# Altium integrated library Micron Memory Mobile LPDRAM.IntLib: 146 symbols (part 20 of 41)
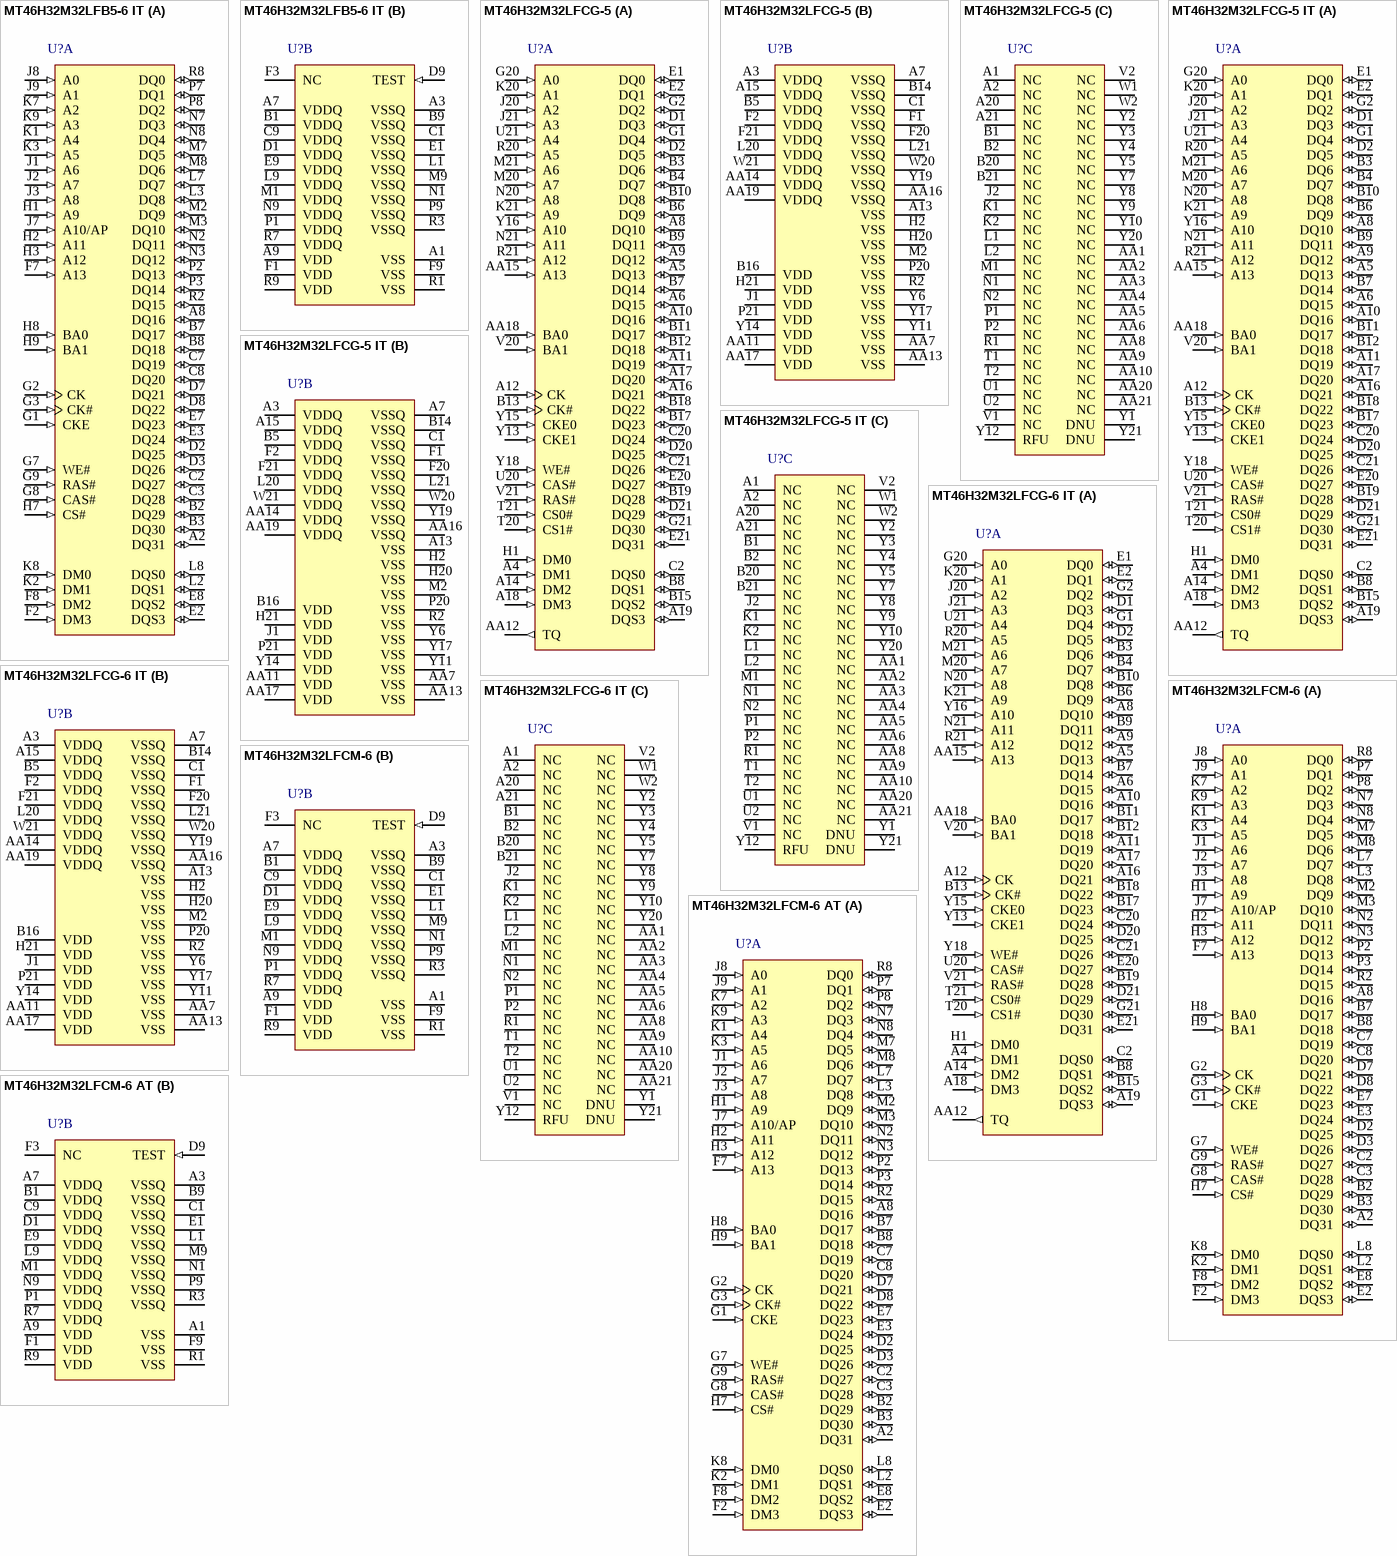
[diagram p43: symbols MT46H32M32LFB5-6 IT to MT46H32M32LFCM-6 AT]

## MT46H32M32LFB5-6 IT
designator U?
1Gb LPDDR333 SDRAM, 32Mb x 32, 6ns, 1.8V, -40 to 85 degC, 90-Ball VFBGA, Pb-Free; Manufacturer: Micron; PartNumber: MT46H32M32LFB5-6 IT; Clock Rate: 167 MHz; Op. Temp.: -40C to +85C; DatasheetVersion: Rev.B; PackageVersion: Rev.P; PackageReference: MICT-B5-90; PackageDescription: 90-Ball Very Thin Profile Fine-Pitch Ball Grid Array, 13 x 8 mm, Pitch 0.8 mm; Cycle Time: 6ns; Data Rate: LPDDR333; Density: 1Gb; Depth: 32Mb; Package: VFBGA; Part Status: Production; Pin Count: 90-ball; RoHS: Yes; Technology: Mobile LPDDR; Voltage: 1.8V; Width: x32; Mounting Technology: Surface Mount; ComponentLink1Description: Manufacturer URL; ComponentLink1URL: http://www.micron.com/; ComponentLink2Description: Datasheet; ComponentLink2URL: http://www.micron.com/~/media/Documents/Products/Data%20Sheet/DRAM/Mobile%20DRAM/Low-Power%20DRAM/LPDDR/60-series/t68m_esg_mobile_lpddr.pdf; ComponentLink3Description: Package Specification; ComponentLink3URL: http://www.micron.com/~/media/Documents/Products/Data%20Sheet/DRAM/Mobile%20DRAM/Low-Power%20DRAM/LPDDR/60-series/T67M_512Mb_mobile_lpddr_sdram_embedded.pdf
footprint MICT-B5-90 (BGA, 90-Balls, Body 13x8mm, Pitch 0.8mm)
part A pins: A2 DQ31 (io) "Data input/output: Data bus for x16 and x32.", A8 DQ16 (io) "Data input/output: Data bus for x16 and x32.", B2 DQ29 (io) "Data input/output: Data bus for x16 and x32.", B3 DQ30 (io) "Data input/output: Data bus for x16 and x32.", B7 DQ17 (io) "Data input/output: Data bus for x16 and x32.", B8 DQ18 (io) "Data input/output: Data bus for x16 and x32.", C2 DQ27 (io) "Data input/output: Data bus for x16 and x32.", C3 DQ28 (io) "Data input/output: Data bus for x16 and x32.", C7 DQ19 (io) "Data input/output: Data bus for x16 and x32.", C8 DQ20 (io) "Data input/output: Data bus for x16 and x32.", D2 DQ25 (io) "Data input/output: Data bus for x16 and x32.", D3 DQ26 (io) "Data input/output: Data bus for x16 and x32.", D7 DQ21 (io) "Data input/output: Data bus for x16 and x32.", D8 DQ22 (io) "Data input/output: Data bus for x16 and x32.", E2 DQS3 (io) "Data strobe: Output with read data, input with write data. DQS is edge-aligned with read data, center-aligned in write data. It is used to capture data.", E3 DQ24 (io) "Data input/output: Data bus for x16 and x32.", E7 DQ23 (io) "Data input/output: Data bus for x16 and x32.", E8 DQS2 (io) "Data strobe: Output with read data, input with write data. DQS is edge-aligned with read data, center-aligned in write data. It is used to capture data.", F2 DM3 (in) "Input data mask: DM is an input mask signal for write data. Input data is masked when DM is sampled HIGH along with that input data during a WRITE access. DM is sampled on both edges of DQS. Although DM balls are input-only, (See Datasheet)", F7 A13 (in) "Address inputs: Provide the row address for ACTIVE commands, and the column address and auto precharge bit (A10) for READ or WRITE commands, to select one location out of the memory array in the respective bank. During a (See Datasheet)", F8 DM2 (in) "Input data mask: DM is an input mask signal for write data. Input data is masked when DM is sampled HIGH along with that input data during a WRITE access. DM is sampled on both edges of DQS. Although DM balls are input-only, (See Datasheet)", G1 CKE (in) "Clock enable: CKE HIGH activates, and CKE LOW deactivates, the internal clock signals, input buffers, and output drivers. Taking CKE LOW enables PRECHARGE power-down and SELF REFRESH operations (all banks idle), or ACTIVE (See Datasheet)", G2 CK (in) "any bank). CKE is synchronous for all functions except SELF REFRESH exit. All input buffers (except CKE) are disabled during power-down and self refresh modes. CKE0 is used for a single LPDDR product. CKE1 is used for dual (See Datasheet)", G3 CK# (in) "Clock: CK is the system clock input. CK and CK# are differential clock inputs. All address and control input signals are sampled on the crossing of the positive edge of CK and the negative edge of CK#. Input and output data (See Datasheet)", G7 WE# (in) "Command inputs: RAS#, CAS#, and WE# (along with CS#) define the command being entered.", G8 CAS# (in) "Command inputs: RAS#, CAS#, and WE# (along with CS#) define the command being entered.", G9 RAS# (in) "Command inputs: RAS#, CAS#, and WE# (along with CS#) define the command being entered.", H1 A9 (in) "Address inputs: Provide the row address for ACTIVE commands, and the column address and auto precharge bit (A10) for READ or WRITE commands, to select one location out of the memory array in the respective bank. During a (See Datasheet)", H2 A11 (in) "Address inputs: Provide the row address for ACTIVE commands, and the column address and auto precharge bit (A10) for READ or WRITE commands, to select one location out of the memory array in the respective bank. During a (See Datasheet)", H3 A12 (in) "Address inputs: Provide the row address for ACTIVE commands, and the column address and auto precharge bit (A10) for READ or WRITE commands, to select one location out of the memory array in the respective bank. During a (See Datasheet)", H7 CS# (in) "Chip select: CS# enables (registered LOW) and disables (registered HIGH) the command decoder. All commands are masked when CS# is registered HIGH. CS# provides for external bank selection on systems with multiple banks. CS# (See Datasheet)", H8 BA0 (in) "Bank address inputs: BA0 and BA1 define to which bank an ACTIVE, READ, WRITE, or PRECHARGE command is being applied. BA0 and BA1 also determine which mode register is loaded during a LOAD MODE REGISTER command.", H9 BA1 (in) "Bank address inputs: BA0 and BA1 define to which bank an ACTIVE, READ, WRITE, or PRECHARGE command is being applied. BA0 and BA1 also determine which mode register is loaded during a LOAD MODE REGISTER command.", J1 A6 (in) "Address inputs: Provide the row address for ACTIVE commands, and the column address and auto precharge bit (A10) for READ or WRITE commands, to select one location out of the memory array in the respective bank. During a (See Datasheet)", J2 A7 (in) "Address inputs: Provide the row address for ACTIVE commands, and the column address and auto precharge bit (A10) for READ or WRITE commands, to select one location out of the memory array in the respective bank. During a (See Datasheet)", J3 A8 (in) "Address inputs: Provide the row address for ACTIVE commands, and the column address and auto precharge bit (A10) for READ or WRITE commands, to select one location out of the memory array in the respective bank. During a (See Datasheet)", J7 A10/AP (in) "Address inputs: Provide the row address for ACTIVE commands, and the column address and auto precharge bit (A10) for READ or WRITE commands, to select one location out of the memory array in the respective bank. During a (See Datasheet)", J8 A0 (in) "Address inputs: Provide the row address for ACTIVE commands, and the column address and auto precharge bit (A10) for READ or WRITE commands, to select one location out of the memory array in the respective bank. During a (See Datasheet)", J9 A1 (in) "Address inputs: Provide the row address for ACTIVE commands, and the column address and auto precharge bit (A10) for READ or WRITE commands, to select one location out of the memory array in the respective bank. During a (See Datasheet)", K1 A4 (in) "Address inputs: Provide the row address for ACTIVE commands, and the column address and auto precharge bit (A10) for READ or WRITE commands, to select one location out of the memory array in the respective bank. During a (See Datasheet)", K2 DM1 (in) "Input data mask: DM is an input mask signal for write data. Input data is masked when DM is sampled HIGH along with that input data during a WRITE access. DM is sampled on both edges of DQS. Although DM balls are input-only, (See Datasheet)", K3 A5 (in) "Address inputs: Provide the row address for ACTIVE commands, and the column address and auto precharge bit (A10) for READ or WRITE commands, to select one location out of the memory array in the respective bank. During a (See Datasheet)", K7 A2 (in) "Address inputs: Provide the row address for ACTIVE commands, and the column address and auto precharge bit (A10) for READ or WRITE commands, to select one location out of the memory array in the respective bank. During a (See Datasheet)", K8 DM0 (in) "Input data mask: DM is an input mask signal for write data. Input data is masked when DM is sampled HIGH along with that input data during a WRITE access. DM is sampled on both edges of DQS. Although DM balls are input-only, (See Datasheet)", K9 A3 (in) "Address inputs: Provide the row address for ACTIVE commands, and the column address and auto precharge bit (A10) for READ or WRITE commands, to select one location out of the memory array in the respective bank. During a (See Datasheet)", L2 DQS1 (io) "Data strobe: Output with read data, input with write data. DQS is edge-aligned with read data, center-aligned in write data. It is used to capture data.", L3 DQ8 (io) "Data input/output: Data bus for x16 and x32.", L7 DQ7 (io) "Data input/output: Data bus for x16 and x32.", L8 DQS0 (io) "Data strobe: Output with read data, input with write data. DQS is edge-aligned with read data, center-aligned in write data. It is used to capture data.", M2 DQ9 (io) "Data input/output: Data bus for x16 and x32.", M3 DQ10 (io) "Data input/output: Data bus for x16 and x32.", M7 DQ5 (io) "Data input/output: Data bus for x16 and x32.", M8 DQ6 (io) "Data input/output: Data bus for x16 and x32.", N2 DQ11 (io) "Data input/output: Data bus for x16 and x32.", N3 DQ12 (io) "Data input/output: Data bus for x16 and x32.", N7 DQ3 (io) "Data input/output: Data bus for x16 and x32.", N8 DQ4 (io) "Data input/output: Data bus for x16 and x32.", P2 DQ13 (io) "Data input/output: Data bus for x16 and x32.", P3 DQ14 (io) "Data input/output: Data bus for x16 and x32.", P7 DQ1 (io) "Data input/output: Data bus for x16 and x32.", P8 DQ2 (io) "Data input/output: Data bus for x16 and x32.", R2 DQ15 (io) "Data input/output: Data bus for x16 and x32.", R8 DQ0 (io) "Data input/output: Data bus for x16 and x32."
part B pins: A1 VSS (power) "Ground.", A3 VSSQ (power) "DQ ground.", A7 VDDQ (power) "DQ power supply.", A9 VDD (power) "Power supply.", B1 VDDQ (power) "DQ power supply.", B9 VSSQ (power) "DQ ground.", C1 VSSQ (power) "DQ ground.", C9 VDDQ (power) "DQ power supply.", D1 VDDQ (power) "DQ power supply.", D9 TEST (in) "Test pin: Must be tied to VSS or VSSQ in normal operations.", E1 VSSQ (power) "DQ ground.", E9 VDDQ (power) "DQ power supply.", F1 VDD (power) "Power supply.", F3 NC "No connect: May be left unconnected.", F9 VSS (power) "Ground.", L1 VSSQ (power) "DQ ground.", L9 VDDQ (power) "DQ power supply.", M1 VDDQ (power) "DQ power supply.", M9 VSSQ (power) "DQ ground.", N1 VSSQ (power) "DQ ground.", N9 VDDQ (power) "DQ power supply.", P1 VDDQ (power) "DQ power supply.", P9 VSSQ (power) "DQ ground.", R1 VSS (power) "Ground.", R3 VSSQ (power) "DQ ground.", R7 VDDQ (power) "DQ power supply.", R9 VDD (power) "Power supply."

## MT46H32M32LFCG-5
designator U?
1Gb LPDDR400 SDRAM, 32Mb x 32, 5ns, 1.8V, 0 to 70 degC, 152-Pin POP, Pb-Free; Manufacturer: Micron; PartNumber: MT46H32M32LFCG-5; Clock Rate: 200 MHz; Op. Temp.: 0C to +70C; DatasheetVersion: Rev.B; PackageVersion: Rev.E; PackageReference: MICT-CG-152; PackageDescription: 152-Ball POP, 14 x 14 mm, Pitch 0.65 mm; Cycle Time: 5ns; Data Rate: LPDDR400; Density: 1Gb; Depth: 32Mb; Package: POP; Part Status: End of Life; Pin Count: 152-ball; RoHS: Yes; Technology: Mobile LPDDR; Voltage: 1.8V; Width: x32; Mounting Technology: Surface Mount; ComponentLink1Description: Manufacturer URL; ComponentLink1URL: http://www.micron.com/; ComponentLink2Description: Datasheet; ComponentLink2URL: http://www.micron.com/~/media/Documents/Products/Data%20Sheet/DRAM/Mobile%20DRAM/Low-Power%20DRAM/LPDDR/60-series/t68m_esg_mobile_lpddr.pdf; ComponentLink3Description: Package Specification; ComponentLink3URL: http://www.micron.com/~/media/Documents/Products/Data%20Sheet/MCP/152ball/ddr_mobile_sdram_only_152b_omap_pop.pdf
footprint MICT-CG-152 (BGA, 152-Balls, Body 14x14mm, Pitch 0.65mm)
part A pins: A4 DM1 (in) "Data mask: Determines which bytes are written during WRITE operations.", A5 DQ13 (io) "Data bus: Data inputs/outputs.", A6 DQ15 (io) "Data bus: Data inputs/outputs.", A8 DQ10 (io) "Data bus: Data inputs/outputs.", A9 DQ12 (io) "Data bus: Data inputs/outputs.", A10 DQ16 (io) "Data bus: Data inputs/outputs.", A11 DQ19 (io) "Data bus: Data inputs/outputs.", A12 CK (in) "CK is the system clock. CK and CK# are differential clock inputs. All address and control signals are sampled and referenced on the crossing of the rising edge of CK with the falling edge of CK#.", A14 DM2 (in) "Data mask: Determines which bytes are written during WRITE operations.", A16 DQ21 (io) "Data bus: Data inputs/outputs.", A17 DQ20 (io) "Data bus: Data inputs/outputs.", A18 DM3 (in) "Data mask: Determines which bytes are written during WRITE operations.", A19 DQS3 (io) "Data strobe: Coordinates read/write transfers of data; one DQS per DQ byte.", AA12 TQ (out) "Temperature sensor output: TQ HIGH when LPDDR TJ exceeds 85degreesC.", AA15 A13 (in) "Address inputs: Specify the row or column address. Also used to load the mode registers. The maximum address is determined by density and configuration. Consult the LPDDR product data sheet for the maximum address for a (See Datasheet)", AA18 BA0 (in) "Bank address inputs: Specify one of the 4 banks.", B3 DQ6 (io) "Data bus: Data inputs/outputs.", B4 DQ7 (io) "Data bus: Data inputs/outputs.", B6 DQ9 (io) "Data bus: Data inputs/outputs.", B7 DQ14 (io) "Data bus: Data inputs/outputs.", B8 DQS1 (io) "Data strobe: Coordinates read/write transfers of data; one DQS per DQ byte.", B9 DQ11 (io) "Data bus: Data inputs/outputs.", B10 DQ8 (io) "Data bus: Data inputs/outputs.", B11 DQ17 (io) "Data bus: Data inputs/outputs.", B12 DQ18 (io) "Data bus: Data inputs/outputs.", B13 CK# (in) "CK is the system clock. CK and CK# are differential clock inputs. All address and control signals are sampled and referenced on the crossing of the rising edge of CK with the falling edge of CK#.", B15 DQS2 (io) "Data strobe: Coordinates read/write transfers of data; one DQS per DQ byte.", B17 DQ23 (io) "Data bus: Data inputs/outputs.", B18 DQ22 (io) "Data bus: Data inputs/outputs.", B19 DQ28 (io) "Data bus: Data inputs/outputs.", C2 DQS0 (io) "Data strobe: Coordinates read/write transfers of data; one DQS per DQ byte.", C20 DQ24 (io) "Data bus: Data inputs/outputs.", C21 DQ26 (io) "Data bus: Data inputs/outputs.", D1 DQ3 (io) "Data bus: Data inputs/outputs.", D2 DQ5 (io) "Data bus: Data inputs/outputs.", D20 DQ25 (io) "Data bus: Data inputs/outputs.", D21 DQ29 (io) "Data bus: Data inputs/outputs.", E1 DQ0 (io) "Data bus: Data inputs/outputs.", E2 DQ1 (io) "Data bus: Data inputs/outputs.", E20 DQ27 (io) "Data bus: Data inputs/outputs.", E21 DQ31 (io) "Data bus: Data inputs/outputs.", G1 DQ4 (io) "Data bus: Data inputs/outputs.", G2 DQ2 (io) "Data bus: Data inputs/outputs.", G20 A0 (in) "Address inputs: Specify the row or column address. Also used to load the mode registers. The maximum address is determined by density and configuration. Consult the LPDDR product data sheet for the maximum address for a (See Datasheet)", G21 DQ30 (io) "Data bus: Data inputs/outputs.", H1 DM0 (in) "Data mask: Determines which bytes are written during WRITE operations.", J20 A2 (in) "Address inputs: Specify the row or column address. Also used to load the mode registers. The maximum address is determined by density and configuration. Consult the LPDDR product data sheet for the maximum address for a (See Datasheet)", J21 A3 (in) "Address inputs: Specify the row or column address. Also used to load the mode registers. The maximum address is determined by density and configuration. Consult the LPDDR product data sheet for the maximum address for a (See Datasheet)", K20 A1 (in) "Address inputs: Specify the row or column address. Also used to load the mode registers. The maximum address is determined by density and configuration. Consult the LPDDR product data sheet for the maximum address for a (See Datasheet)", K21 A9 (in) "Address inputs: Specify the row or column address. Also used to load the mode registers. The maximum address is determined by density and configuration. Consult the LPDDR product data sheet for the maximum address for a (See Datasheet)", M20 A7 (in) "Address inputs: Specify the row or column address. Also used to load the mode registers. The maximum address is determined by density and configuration. Consult the LPDDR product data sheet for the maximum address for a (See Datasheet)", M21 A6 (in) "Address inputs: Specify the row or column address. Also used to load the mode registers. The maximum address is determined by density and configuration. Consult the LPDDR product data sheet for the maximum address for a (See Datasheet)", N20 A8 (in) "Address inputs: Specify the row or column address. Also used to load the mode registers. The maximum address is determined by density and configuration. Consult the LPDDR product data sheet for the maximum address for a (See Datasheet)", N21 A11 (in) "Address inputs: Specify the row or column address. Also used to load the mode registers. The maximum address is determined by density and configuration. Consult the LPDDR product data sheet for the maximum address for a (See Datasheet)", R20 A5 (in) "Address inputs: Specify the row or column address. Also used to load the mode registers. The maximum address is determined by density and configuration. Consult the LPDDR product data sheet for the maximum address for a (See Datasheet)", R21 A12 (in) "Address inputs: Specify the row or column address. Also used to load the mode registers. The maximum address is determined by density and configuration. Consult the LPDDR product data sheet for the maximum address for a (See Datasheet)", T20 CS1# (in) "Chip select: CS1# is used for dual LPDDR products, and is considered RFU for single products.", T21 CS0# (in) "Chip select: CS0# is used for a single LPDDR product.", U20 CAS# (in) "Column select: Specifies the command to execute.", U21 A4 (in) "Address inputs: Specify the row or column address. Also used to load the mode registers. The maximum address is determined by density and configuration. Consult the LPDDR product data sheet for the maximum address for a (See Datasheet)", V20 BA1 (in) "Bank address inputs: Specify one of the 4 banks.", V21 RAS# (in) "Row select: Specifies the command to execute.", Y13 CKE1 (in) "Clock enable. CKE1 is used for dual LPDDR products, and is considered RFU for single products.", Y15 CKE0 (in) "Clock enable.CKE0 is used for a single LPDDR product.", Y16 A10 (in) "Address inputs: Specify the row or column address. Also used to load the mode registers. The maximum address is determined by density and configuration. Consult the LPDDR product data sheet for the maximum address for a (See Datasheet)", Y18 WE# (in) "Write enable: Specifies the command to execute."
part B pins: A3 VDDQ (power) "VDDQ: LPDDR I/O power supply.", A7 VSSQ (power) "VSSQ: LPDDR I/O ground.", A13 VSS (power) "VSS: Shared ground.", A15 VDDQ (power) "VDDQ: LPDDR I/O power supply.", AA7 VSS (power) "VSS: Shared ground.", AA11 VDD (power) "VDD: LPDDR power supply.", AA13 VSS (power) "VSS: Shared ground.", AA14 VDDQ (power) "VDDQ: LPDDR I/O power supply.", AA16 VSSQ (power) "VSSQ: LPDDR I/O ground.", AA17 VDD (power) "VDD: LPDDR power supply.", AA19 VDDQ (power) "VDDQ: LPDDR I/O power supply.", B5 VDDQ (power) "VDDQ: LPDDR I/O power supply.", B14 VSSQ (power) "VSSQ: LPDDR I/O ground.", B16 VDD (power) "VDD: LPDDR power supply.", C1 VSSQ (power) "VSSQ: LPDDR I/O ground.", F1 VSSQ (power) "VSSQ: LPDDR I/O ground.", F2 VDDQ (power) "VDDQ: LPDDR I/O power supply.", F20 VSSQ (power) "VSSQ: LPDDR I/O ground.", F21 VDDQ (power) "VDDQ: LPDDR I/O power supply.", H2 VSS (power) "VSS: Shared ground.", H20 VSS (power) "VSS: Shared ground.", H21 VDD (power) "VDD: LPDDR power supply.", J1 VDD (power) "VDD: LPDDR power supply.", L20 VDDQ (power) "VDDQ: LPDDR I/O power supply.", L21 VSSQ (power) "VSSQ: LPDDR I/O ground.", M2 VSS (power) "VSS: Shared ground.", P20 VSS (power) "VSS: Shared ground.", P21 VDD (power) "VDD: LPDDR power supply.", R2 VSS (power) "VSS: Shared ground.", W20 VSSQ (power) "VSSQ: LPDDR I/O ground.", W21 VDDQ (power) "VDDQ: LPDDR I/O power supply.", Y6 VSS (power) "VSS: Shared ground.", Y11 VSS (power) "VSS: Shared ground.", Y14 VDD (power) "VDD: LPDDR power supply.", Y17 VSS (power) "VSS: Shared ground.", Y19 VSSQ (power) "VSSQ: LPDDR I/O ground."
part C pins: A1 NC "No connect: Not internally connected.", A2 NC "No connect: Not internally connected.", A20 NC "No connect: Not internally connected.", A21 NC "No connect: Not internally connected.", AA1 NC "No connect: Not internally connected.", AA2 NC "No connect: Not internally connected.", AA3 NC "No connect: Not internally connected.", AA4 NC "No connect: Not internally connected.", AA5 NC "No connect: Not internally connected.", AA6 NC "No connect: Not internally connected.", AA8 NC "No connect: Not internally connected.", AA9 NC "No connect: Not internally connected.", AA10 NC "No connect: Not internally connected.", AA20 NC "No connect: Not internally connected.", AA21 NC "No connect: Not internally connected.", B1 NC "No connect: Not internally connected.", B2 NC "No connect: Not internally connected.", B20 NC "No connect: Not internally connected.", B21 NC "No connect: Not internally connected.", J2 NC "No connect: Not internally connected.", K1 NC "No connect: Not internally connected.", K2 NC "No connect: Not internally connected.", L1 NC "No connect: Not internally connected.", L2 NC "No connect: Not internally connected.", M1 NC "No connect: Not internally connected.", N1 NC "No connect: Not internally connected.", N2 NC "No connect: Not internally connected.", P1 NC "No connect: Not internally connected.", P2 NC "No connect: Not internally connected.", R1 NC "No connect: Not internally connected.", T1 NC "No connect: Not internally connected.", T2 NC "No connect: Not internally connected.", U1 NC "No connect: Not internally connected.", U2 NC "No connect: Not internally connected.", V1 NC "No connect: Not internally connected.", V2 NC "No connect: Not internally connected.", W1 NC "No connect: Not internally connected.", W2 NC "No connect: Not internally connected.", Y1 DNU "Do not use: Must be grounded or left floating.", Y2 NC "No connect: Not internally connected.", Y3 NC "No connect: Not internally connected.", Y4 NC "No connect: Not internally connected.", Y5 NC "No connect: Not internally connected.", Y7 NC "No connect: Not internally connected.", Y8 NC "No connect: Not internally connected.", Y9 NC "No connect: Not internally connected.", Y10 NC "No connect: Not internally connected.", Y12 RFU "Reserved for future use.", Y20 NC "No connect: Not internally connected.", Y21 DNU "Do not use: Must be grounded or left floating."

## MT46H32M32LFCG-5 IT
designator U?
1Gb LPDDR400 SDRAM, 32Mb x 32, 5ns, 1.8V, -40 to 85 degC, 152-Pin POP, Pb-Free; Manufacturer: Micron; PartNumber: MT46H32M32LFCG-5 IT; Clock Rate: 200 MHz; Op. Temp.: -40C to +85C; DatasheetVersion: Rev.B; PackageVersion: Rev.E; PackageReference: MICT-CG-152; PackageDescription: 152-Ball POP, 14 x 14 mm, Pitch 0.65 mm; Cycle Time: 5ns; Data Rate: LPDDR400; Density: 1Gb; Depth: 32Mb; Package: POP; Part Status: End of Life; Pin Count: 152-ball; RoHS: Yes; Technology: Mobile LPDDR; Voltage: 1.8V; Width: x32; Mounting Technology: Surface Mount; ComponentLink1Description: Manufacturer URL; ComponentLink1URL: http://www.micron.com/; ComponentLink2Description: Datasheet; ComponentLink2URL: http://www.micron.com/~/media/Documents/Products/Data%20Sheet/DRAM/Mobile%20DRAM/Low-Power%20DRAM/LPDDR/60-series/t68m_esg_mobile_lpddr.pdf; ComponentLink3Description: Package Specification; ComponentLink3URL: http://www.micron.com/~/media/Documents/Products/Data%20Sheet/MCP/152ball/ddr_mobile_sdram_only_152b_omap_pop.pdf
footprint MICT-CG-152 (BGA, 152-Balls, Body 14x14mm, Pitch 0.65mm)
part A pins: A4 DM1 (in) "Data mask: Determines which bytes are written during WRITE operations.", A5 DQ13 (io) "Data bus: Data inputs/outputs.", A6 DQ15 (io) "Data bus: Data inputs/outputs.", A8 DQ10 (io) "Data bus: Data inputs/outputs.", A9 DQ12 (io) "Data bus: Data inputs/outputs.", A10 DQ16 (io) "Data bus: Data inputs/outputs.", A11 DQ19 (io) "Data bus: Data inputs/outputs.", A12 CK (in) "CK is the system clock. CK and CK# are differential clock inputs. All address and control signals are sampled and referenced on the crossing of the rising edge of CK with the falling edge of CK#.", A14 DM2 (in) "Data mask: Determines which bytes are written during WRITE operations.", A16 DQ21 (io) "Data bus: Data inputs/outputs.", A17 DQ20 (io) "Data bus: Data inputs/outputs.", A18 DM3 (in) "Data mask: Determines which bytes are written during WRITE operations.", A19 DQS3 (io) "Data strobe: Coordinates read/write transfers of data; one DQS per DQ byte.", AA12 TQ (out) "Temperature sensor output: TQ HIGH when LPDDR TJ exceeds 85degreesC.", AA15 A13 (in) "Address inputs: Specify the row or column address. Also used to load the mode registers. The maximum address is determined by density and configuration. Consult the LPDDR product data sheet for the maximum address for a (See Datasheet)", AA18 BA0 (in) "Bank address inputs: Specify one of the 4 banks.", B3 DQ6 (io) "Data bus: Data inputs/outputs.", B4 DQ7 (io) "Data bus: Data inputs/outputs.", B6 DQ9 (io) "Data bus: Data inputs/outputs.", B7 DQ14 (io) "Data bus: Data inputs/outputs.", B8 DQS1 (io) "Data strobe: Coordinates read/write transfers of data; one DQS per DQ byte.", B9 DQ11 (io) "Data bus: Data inputs/outputs.", B10 DQ8 (io) "Data bus: Data inputs/outputs.", B11 DQ17 (io) "Data bus: Data inputs/outputs.", B12 DQ18 (io) "Data bus: Data inputs/outputs.", B13 CK# (in) "CK is the system clock. CK and CK# are differential clock inputs. All address and control signals are sampled and referenced on the crossing of the rising edge of CK with the falling edge of CK#.", B15 DQS2 (io) "Data strobe: Coordinates read/write transfers of data; one DQS per DQ byte.", B17 DQ23 (io) "Data bus: Data inputs/outputs.", B18 DQ22 (io) "Data bus: Data inputs/outputs.", B19 DQ28 (io) "Data bus: Data inputs/outputs.", C2 DQS0 (io) "Data strobe: Coordinates read/write transfers of data; one DQS per DQ byte.", C20 DQ24 (io) "Data bus: Data inputs/outputs.", C21 DQ26 (io) "Data bus: Data inputs/outputs.", D1 DQ3 (io) "Data bus: Data inputs/outputs.", D2 DQ5 (io) "Data bus: Data inputs/outputs.", D20 DQ25 (io) "Data bus: Data inputs/outputs.", D21 DQ29 (io) "Data bus: Data inputs/outputs.", E1 DQ0 (io) "Data bus: Data inputs/outputs.", E2 DQ1 (io) "Data bus: Data inputs/outputs.", E20 DQ27 (io) "Data bus: Data inputs/outputs.", E21 DQ31 (io) "Data bus: Data inputs/outputs.", G1 DQ4 (io) "Data bus: Data inputs/outputs.", G2 DQ2 (io) "Data bus: Data inputs/outputs.", G20 A0 (in) "Address inputs: Specify the row or column address. Also used to load the mode registers. The maximum address is determined by density and configuration. Consult the LPDDR product data sheet for the maximum address for a (See Datasheet)", G21 DQ30 (io) "Data bus: Data inputs/outputs.", H1 DM0 (in) "Data mask: Determines which bytes are written during WRITE operations.", J20 A2 (in) "Address inputs: Specify the row or column address. Also used to load the mode registers. The maximum address is determined by density and configuration. Consult the LPDDR product data sheet for the maximum address for a (See Datasheet)", J21 A3 (in) "Address inputs: Specify the row or column address. Also used to load the mode registers. The maximum address is determined by density and configuration. Consult the LPDDR product data sheet for the maximum address for a (See Datasheet)", K20 A1 (in) "Address inputs: Specify the row or column address. Also used to load the mode registers. The maximum address is determined by density and configuration. Consult the LPDDR product data sheet for the maximum address for a (See Datasheet)", K21 A9 (in) "Address inputs: Specify the row or column address. Also used to load the mode registers. The maximum address is determined by density and configuration. Consult the LPDDR product data sheet for the maximum address for a (See Datasheet)", M20 A7 (in) "Address inputs: Specify the row or column address. Also used to load the mode registers. The maximum address is determined by density and configuration. Consult the LPDDR product data sheet for the maximum address for a (See Datasheet)", M21 A6 (in) "Address inputs: Specify the row or column address. Also used to load the mode registers. The maximum address is determined by density and configuration. Consult the LPDDR product data sheet for the maximum address for a (See Datasheet)", N20 A8 (in) "Address inputs: Specify the row or column address. Also used to load the mode registers. The maximum address is determined by density and configuration. Consult the LPDDR product data sheet for the maximum address for a (See Datasheet)", N21 A11 (in) "Address inputs: Specify the row or column address. Also used to load the mode registers. The maximum address is determined by density and configuration. Consult the LPDDR product data sheet for the maximum address for a (See Datasheet)", R20 A5 (in) "Address inputs: Specify the row or column address. Also used to load the mode registers. The maximum address is determined by density and configuration. Consult the LPDDR product data sheet for the maximum address for a (See Datasheet)", R21 A12 (in) "Address inputs: Specify the row or column address. Also used to load the mode registers. The maximum address is determined by density and configuration. Consult the LPDDR product data sheet for the maximum address for a (See Datasheet)", T20 CS1# (in) "Chip select: CS1# is used for dual LPDDR products, and is considered RFU for single products.", T21 CS0# (in) "Chip select: CS0# is used for a single LPDDR product.", U20 CAS# (in) "Column select: Specifies the command to execute.", U21 A4 (in) "Address inputs: Specify the row or column address. Also used to load the mode registers. The maximum address is determined by density and configuration. Consult the LPDDR product data sheet for the maximum address for a (See Datasheet)", V20 BA1 (in) "Bank address inputs: Specify one of the 4 banks.", V21 RAS# (in) "Row select: Specifies the command to execute.", Y13 CKE1 (in) "Clock enable. CKE1 is used for dual LPDDR products, and is considered RFU for single products.", Y15 CKE0 (in) "Clock enable.CKE0 is used for a single LPDDR product.", Y16 A10 (in) "Address inputs: Specify the row or column address. Also used to load the mode registers. The maximum address is determined by density and configuration. Consult the LPDDR product data sheet for the maximum address for a (See Datasheet)", Y18 WE# (in) "Write enable: Specifies the command to execute."
part B pins: A3 VDDQ (power) "VDDQ: LPDDR I/O power supply.", A7 VSSQ (power) "VSSQ: LPDDR I/O ground.", A13 VSS (power) "VSS: Shared ground.", A15 VDDQ (power) "VDDQ: LPDDR I/O power supply.", AA7 VSS (power) "VSS: Shared ground.", AA11 VDD (power) "VDD: LPDDR power supply.", AA13 VSS (power) "VSS: Shared ground.", AA14 VDDQ (power) "VDDQ: LPDDR I/O power supply.", AA16 VSSQ (power) "VSSQ: LPDDR I/O ground.", AA17 VDD (power) "VDD: LPDDR power supply.", AA19 VDDQ (power) "VDDQ: LPDDR I/O power supply.", B5 VDDQ (power) "VDDQ: LPDDR I/O power supply.", B14 VSSQ (power) "VSSQ: LPDDR I/O ground.", B16 VDD (power) "VDD: LPDDR power supply.", C1 VSSQ (power) "VSSQ: LPDDR I/O ground.", F1 VSSQ (power) "VSSQ: LPDDR I/O ground.", F2 VDDQ (power) "VDDQ: LPDDR I/O power supply.", F20 VSSQ (power) "VSSQ: LPDDR I/O ground.", F21 VDDQ (power) "VDDQ: LPDDR I/O power supply.", H2 VSS (power) "VSS: Shared ground.", H20 VSS (power) "VSS: Shared ground.", H21 VDD (power) "VDD: LPDDR power supply.", J1 VDD (power) "VDD: LPDDR power supply.", L20 VDDQ (power) "VDDQ: LPDDR I/O power supply.", L21 VSSQ (power) "VSSQ: LPDDR I/O ground.", M2 VSS (power) "VSS: Shared ground.", P20 VSS (power) "VSS: Shared ground.", P21 VDD (power) "VDD: LPDDR power supply.", R2 VSS (power) "VSS: Shared ground.", W20 VSSQ (power) "VSSQ: LPDDR I/O ground.", W21 VDDQ (power) "VDDQ: LPDDR I/O power supply.", Y6 VSS (power) "VSS: Shared ground.", Y11 VSS (power) "VSS: Shared ground.", Y14 VDD (power) "VDD: LPDDR power supply.", Y17 VSS (power) "VSS: Shared ground.", Y19 VSSQ (power) "VSSQ: LPDDR I/O ground."
part C pins: A1 NC "No connect: Not internally connected.", A2 NC "No connect: Not internally connected.", A20 NC "No connect: Not internally connected.", A21 NC "No connect: Not internally connected.", AA1 NC "No connect: Not internally connected.", AA2 NC "No connect: Not internally connected.", AA3 NC "No connect: Not internally connected.", AA4 NC "No connect: Not internally connected.", AA5 NC "No connect: Not internally connected.", AA6 NC "No connect: Not internally connected.", AA8 NC "No connect: Not internally connected.", AA9 NC "No connect: Not internally connected.", AA10 NC "No connect: Not internally connected.", AA20 NC "No connect: Not internally connected.", AA21 NC "No connect: Not internally connected.", B1 NC "No connect: Not internally connected.", B2 NC "No connect: Not internally connected.", B20 NC "No connect: Not internally connected.", B21 NC "No connect: Not internally connected.", J2 NC "No connect: Not internally connected.", K1 NC "No connect: Not internally connected.", K2 NC "No connect: Not internally connected.", L1 NC "No connect: Not internally connected.", L2 NC "No connect: Not internally connected.", M1 NC "No connect: Not internally connected.", N1 NC "No connect: Not internally connected.", N2 NC "No connect: Not internally connected.", P1 NC "No connect: Not internally connected.", P2 NC "No connect: Not internally connected.", R1 NC "No connect: Not internally connected.", T1 NC "No connect: Not internally connected.", T2 NC "No connect: Not internally connected.", U1 NC "No connect: Not internally connected.", U2 NC "No connect: Not internally connected.", V1 NC "No connect: Not internally connected.", V2 NC "No connect: Not internally connected.", W1 NC "No connect: Not internally connected.", W2 NC "No connect: Not internally connected.", Y1 DNU "Do not use: Must be grounded or left floating.", Y2 NC "No connect: Not internally connected.", Y3 NC "No connect: Not internally connected.", Y4 NC "No connect: Not internally connected.", Y5 NC "No connect: Not internally connected.", Y7 NC "No connect: Not internally connected.", Y8 NC "No connect: Not internally connected.", Y9 NC "No connect: Not internally connected.", Y10 NC "No connect: Not internally connected.", Y12 RFU "Reserved for future use.", Y20 NC "No connect: Not internally connected.", Y21 DNU "Do not use: Must be grounded or left floating."

## MT46H32M32LFCG-6 IT
designator U?
1Gb LPDDR333 SDRAM, 32Mb x 32, 6ns, 1.8V, -40 to 85 degC, 152-Pin POP, Pb-Free; Manufacturer: Micron; PartNumber: MT46H32M32LFCG-6 IT; Clock Rate: 167 MHz; Op. Temp.: -40C to +85C; DatasheetVersion: Rev.B; PackageVersion: Rev.E; PackageReference: MICT-CG-152; PackageDescription: 152-Ball POP, 14 x 14 mm, Pitch 0.65 mm; Cycle Time: 6ns; Data Rate: LPDDR333; Density: 1Gb; Depth: 32Mb; Package: POP; Part Status: End of Life; Pin Count: 152-ball; RoHS: Yes; Technology: Mobile LPDDR; Voltage: 1.8V; Width: x32; Mounting Technology: Surface Mount; ComponentLink1Description: Manufacturer URL; ComponentLink1URL: http://www.micron.com/; ComponentLink2Description: Datasheet; ComponentLink2URL: http://www.micron.com/~/media/Documents/Products/Data%20Sheet/DRAM/Mobile%20DRAM/Low-Power%20DRAM/LPDDR/60-series/t68m_esg_mobile_lpddr.pdf; ComponentLink3Description: Package Specification; ComponentLink3URL: http://www.micron.com/~/media/Documents/Products/Data%20Sheet/MCP/152ball/ddr_mobile_sdram_only_152b_omap_pop.pdf
footprint MICT-CG-152 (BGA, 152-Balls, Body 14x14mm, Pitch 0.65mm)
part A pins: A4 DM1 (in) "Data mask: Determines which bytes are written during WRITE operations.", A5 DQ13 (io) "Data bus: Data inputs/outputs.", A6 DQ15 (io) "Data bus: Data inputs/outputs.", A8 DQ10 (io) "Data bus: Data inputs/outputs.", A9 DQ12 (io) "Data bus: Data inputs/outputs.", A10 DQ16 (io) "Data bus: Data inputs/outputs.", A11 DQ19 (io) "Data bus: Data inputs/outputs.", A12 CK (in) "CK is the system clock. CK and CK# are differential clock inputs. All address and control signals are sampled and referenced on the crossing of the rising edge of CK with the falling edge of CK#.", A14 DM2 (in) "Data mask: Determines which bytes are written during WRITE operations.", A16 DQ21 (io) "Data bus: Data inputs/outputs.", A17 DQ20 (io) "Data bus: Data inputs/outputs.", A18 DM3 (in) "Data mask: Determines which bytes are written during WRITE operations.", A19 DQS3 (io) "Data strobe: Coordinates read/write transfers of data; one DQS per DQ byte.", AA12 TQ (out) "Temperature sensor output: TQ HIGH when LPDDR TJ exceeds 85degreesC.", AA15 A13 (in) "Address inputs: Specify the row or column address. Also used to load the mode registers. The maximum address is determined by density and configuration. Consult the LPDDR product data sheet for the maximum address for a (See Datasheet)", AA18 BA0 (in) "Bank address inputs: Specify one of the 4 banks.", B3 DQ6 (io) "Data bus: Data inputs/outputs.", B4 DQ7 (io) "Data bus: Data inputs/outputs.", B6 DQ9 (io) "Data bus: Data inputs/outputs.", B7 DQ14 (io) "Data bus: Data inputs/outputs.", B8 DQS1 (io) "Data strobe: Coordinates read/write transfers of data; one DQS per DQ byte.", B9 DQ11 (io) "Data bus: Data inputs/outputs.", B10 DQ8 (io) "Data bus: Data inputs/outputs.", B11 DQ17 (io) "Data bus: Data inputs/outputs.", B12 DQ18 (io) "Data bus: Data inputs/outputs.", B13 CK# (in) "CK is the system clock. CK and CK# are differential clock inputs. All address and control signals are sampled and referenced on the crossing of the rising edge of CK with the falling edge of CK#.", B15 DQS2 (io) "Data strobe: Coordinates read/write transfers of data; one DQS per DQ byte.", B17 DQ23 (io) "Data bus: Data inputs/outputs.", B18 DQ22 (io) "Data bus: Data inputs/outputs.", B19 DQ28 (io) "Data bus: Data inputs/outputs.", C2 DQS0 (io) "Data strobe: Coordinates read/write transfers of data; one DQS per DQ byte.", C20 DQ24 (io) "Data bus: Data inputs/outputs.", C21 DQ26 (io) "Data bus: Data inputs/outputs.", D1 DQ3 (io) "Data bus: Data inputs/outputs.", D2 DQ5 (io) "Data bus: Data inputs/outputs.", D20 DQ25 (io) "Data bus: Data inputs/outputs.", D21 DQ29 (io) "Data bus: Data inputs/outputs.", E1 DQ0 (io) "Data bus: Data inputs/outputs.", E2 DQ1 (io) "Data bus: Data inputs/outputs.", E20 DQ27 (io) "Data bus: Data inputs/outputs.", E21 DQ31 (io) "Data bus: Data inputs/outputs.", G1 DQ4 (io) "Data bus: Data inputs/outputs.", G2 DQ2 (io) "Data bus: Data inputs/outputs.", G20 A0 (in) "Address inputs: Specify the row or column address. Also used to load the mode registers. The maximum address is determined by density and configuration. Consult the LPDDR product data sheet for the maximum address for a (See Datasheet)", G21 DQ30 (io) "Data bus: Data inputs/outputs.", H1 DM0 (in) "Data mask: Determines which bytes are written during WRITE operations.", J20 A2 (in) "Address inputs: Specify the row or column address. Also used to load the mode registers. The maximum address is determined by density and configuration. Consult the LPDDR product data sheet for the maximum address for a (See Datasheet)", J21 A3 (in) "Address inputs: Specify the row or column address. Also used to load the mode registers. The maximum address is determined by density and configuration. Consult the LPDDR product data sheet for the maximum address for a (See Datasheet)", K20 A1 (in) "Address inputs: Specify the row or column address. Also used to load the mode registers. The maximum address is determined by density and configuration. Consult the LPDDR product data sheet for the maximum address for a (See Datasheet)", K21 A9 (in) "Address inputs: Specify the row or column address. Also used to load the mode registers. The maximum address is determined by density and configuration. Consult the LPDDR product data sheet for the maximum address for a (See Datasheet)", M20 A7 (in) "Address inputs: Specify the row or column address. Also used to load the mode registers. The maximum address is determined by density and configuration. Consult the LPDDR product data sheet for the maximum address for a (See Datasheet)", M21 A6 (in) "Address inputs: Specify the row or column address. Also used to load the mode registers. The maximum address is determined by density and configuration. Consult the LPDDR product data sheet for the maximum address for a (See Datasheet)", N20 A8 (in) "Address inputs: Specify the row or column address. Also used to load the mode registers. The maximum address is determined by density and configuration. Consult the LPDDR product data sheet for the maximum address for a (See Datasheet)", N21 A11 (in) "Address inputs: Specify the row or column address. Also used to load the mode registers. The maximum address is determined by density and configuration. Consult the LPDDR product data sheet for the maximum address for a (See Datasheet)", R20 A5 (in) "Address inputs: Specify the row or column address. Also used to load the mode registers. The maximum address is determined by density and configuration. Consult the LPDDR product data sheet for the maximum address for a (See Datasheet)", R21 A12 (in) "Address inputs: Specify the row or column address. Also used to load the mode registers. The maximum address is determined by density and configuration. Consult the LPDDR product data sheet for the maximum address for a (See Datasheet)", T20 CS1# (in) "Chip select: CS1# is used for dual LPDDR products, and is considered RFU for single products.", T21 CS0# (in) "Chip select: CS0# is used for a single LPDDR product.", U20 CAS# (in) "Column select: Specifies the command to execute.", U21 A4 (in) "Address inputs: Specify the row or column address. Also used to load the mode registers. The maximum address is determined by density and configuration. Consult the LPDDR product data sheet for the maximum address for a (See Datasheet)", V20 BA1 (in) "Bank address inputs: Specify one of the 4 banks.", V21 RAS# (in) "Row select: Specifies the command to execute.", Y13 CKE1 (in) "Clock enable. CKE1 is used for dual LPDDR products, and is considered RFU for single products.", Y15 CKE0 (in) "Clock enable.CKE0 is used for a single LPDDR product.", Y16 A10 (in) "Address inputs: Specify the row or column address. Also used to load the mode registers. The maximum address is determined by density and configuration. Consult the LPDDR product data sheet for the maximum address for a (See Datasheet)", Y18 WE# (in) "Write enable: Specifies the command to execute."
part B pins: A3 VDDQ (power) "VDDQ: LPDDR I/O power supply.", A7 VSSQ (power) "VSSQ: LPDDR I/O ground.", A13 VSS (power) "VSS: Shared ground.", A15 VDDQ (power) "VDDQ: LPDDR I/O power supply.", AA7 VSS (power) "VSS: Shared ground.", AA11 VDD (power) "VDD: LPDDR power supply.", AA13 VSS (power) "VSS: Shared ground.", AA14 VDDQ (power) "VDDQ: LPDDR I/O power supply.", AA16 VSSQ (power) "VSSQ: LPDDR I/O ground.", AA17 VDD (power) "VDD: LPDDR power supply.", AA19 VDDQ (power) "VDDQ: LPDDR I/O power supply.", B5 VDDQ (power) "VDDQ: LPDDR I/O power supply.", B14 VSSQ (power) "VSSQ: LPDDR I/O ground.", B16 VDD (power) "VDD: LPDDR power supply.", C1 VSSQ (power) "VSSQ: LPDDR I/O ground.", F1 VSSQ (power) "VSSQ: LPDDR I/O ground.", F2 VDDQ (power) "VDDQ: LPDDR I/O power supply.", F20 VSSQ (power) "VSSQ: LPDDR I/O ground.", F21 VDDQ (power) "VDDQ: LPDDR I/O power supply.", H2 VSS (power) "VSS: Shared ground.", H20 VSS (power) "VSS: Shared ground.", H21 VDD (power) "VDD: LPDDR power supply.", J1 VDD (power) "VDD: LPDDR power supply.", L20 VDDQ (power) "VDDQ: LPDDR I/O power supply.", L21 VSSQ (power) "VSSQ: LPDDR I/O ground.", M2 VSS (power) "VSS: Shared ground.", P20 VSS (power) "VSS: Shared ground.", P21 VDD (power) "VDD: LPDDR power supply.", R2 VSS (power) "VSS: Shared ground.", W20 VSSQ (power) "VSSQ: LPDDR I/O ground.", W21 VDDQ (power) "VDDQ: LPDDR I/O power supply.", Y6 VSS (power) "VSS: Shared ground.", Y11 VSS (power) "VSS: Shared ground.", Y14 VDD (power) "VDD: LPDDR power supply.", Y17 VSS (power) "VSS: Shared ground.", Y19 VSSQ (power) "VSSQ: LPDDR I/O ground."
part C pins: A1 NC "No connect: Not internally connected.", A2 NC "No connect: Not internally connected.", A20 NC "No connect: Not internally connected.", A21 NC "No connect: Not internally connected.", AA1 NC "No connect: Not internally connected.", AA2 NC "No connect: Not internally connected.", AA3 NC "No connect: Not internally connected.", AA4 NC "No connect: Not internally connected.", AA5 NC "No connect: Not internally connected.", AA6 NC "No connect: Not internally connected.", AA8 NC "No connect: Not internally connected.", AA9 NC "No connect: Not internally connected.", AA10 NC "No connect: Not internally connected.", AA20 NC "No connect: Not internally connected.", AA21 NC "No connect: Not internally connected.", B1 NC "No connect: Not internally connected.", B2 NC "No connect: Not internally connected.", B20 NC "No connect: Not internally connected.", B21 NC "No connect: Not internally connected.", J2 NC "No connect: Not internally connected.", K1 NC "No connect: Not internally connected.", K2 NC "No connect: Not internally connected.", L1 NC "No connect: Not internally connected.", L2 NC "No connect: Not internally connected.", M1 NC "No connect: Not internally connected.", N1 NC "No connect: Not internally connected.", N2 NC "No connect: Not internally connected.", P1 NC "No connect: Not internally connected.", P2 NC "No connect: Not internally connected.", R1 NC "No connect: Not internally connected.", T1 NC "No connect: Not internally connected.", T2 NC "No connect: Not internally connected.", U1 NC "No connect: Not internally connected.", U2 NC "No connect: Not internally connected.", V1 NC "No connect: Not internally connected.", V2 NC "No connect: Not internally connected.", W1 NC "No connect: Not internally connected.", W2 NC "No connect: Not internally connected.", Y1 DNU "Do not use: Must be grounded or left floating.", Y2 NC "No connect: Not internally connected.", Y3 NC "No connect: Not internally connected.", Y4 NC "No connect: Not internally connected.", Y5 NC "No connect: Not internally connected.", Y7 NC "No connect: Not internally connected.", Y8 NC "No connect: Not internally connected.", Y9 NC "No connect: Not internally connected.", Y10 NC "No connect: Not internally connected.", Y12 RFU "Reserved for future use.", Y20 NC "No connect: Not internally connected.", Y21 DNU "Do not use: Must be grounded or left floating."